# EAGLE library part SIM5350 (library my_ic)
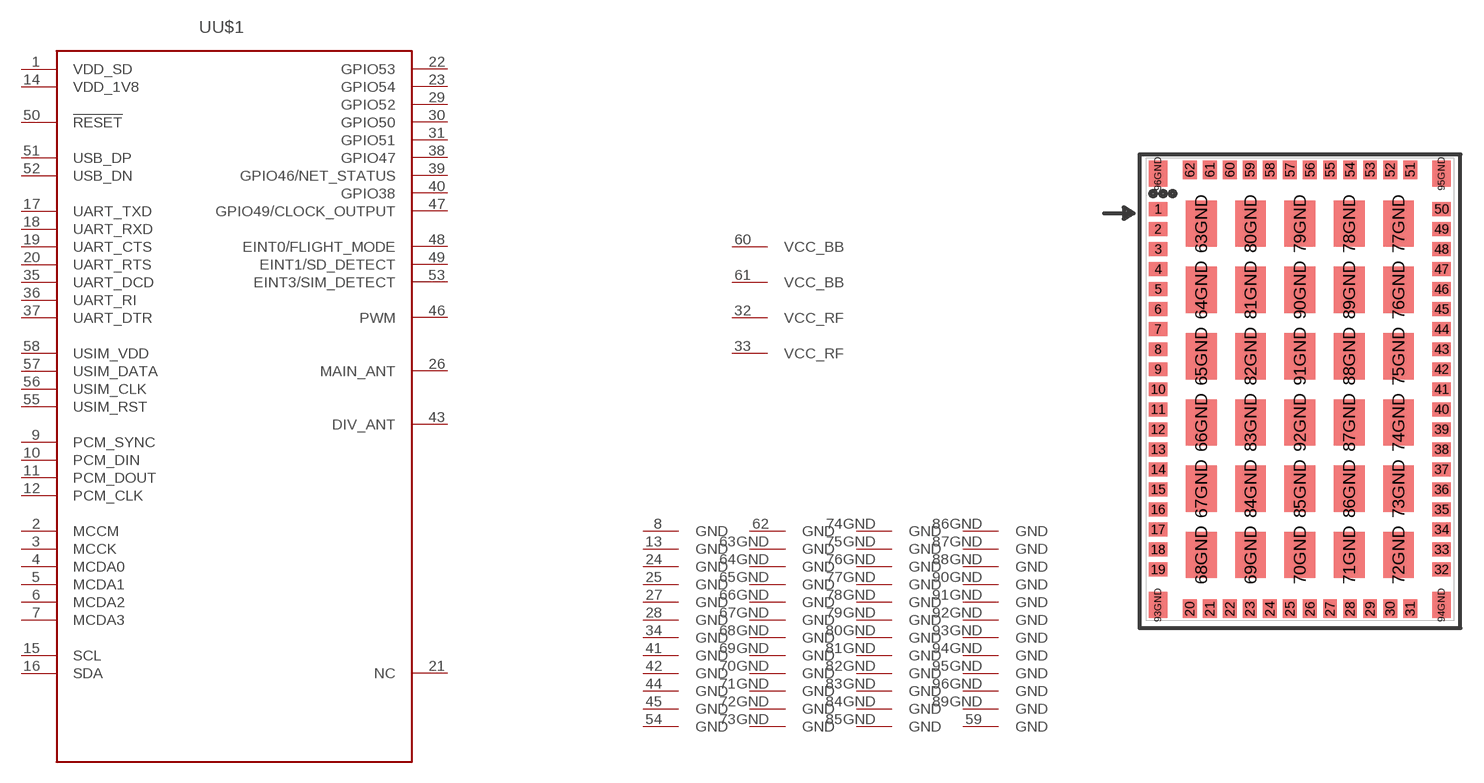
[diagram p16: symbol with the pads of SIM5350; footprint SIM5350]

Designator prefix -; gates VCC_BB@1=SIM5350_VCC_BB VCC_BB@2=SIM5350_VCC_BB VCC_RF@1=SIM5350_VCC_RF VCC_RF@2=SIM5350_VCC_RF U$1=SIM5350 GND@1=SIM5350_GND GND@2=SIM5350_GND GND@3=SIM5350_GND GND@4=SIM5350_GND GND@5=SIM5350_GND GND@6=SIM5350_GND GND@7=SIM5350_GND GND@8=SIM5350_GND GND@9=SIM5350_GND GND@10=SIM5350_GND GND@11=SIM5350_GND GND@12=SIM5350_GND GND@13=SIM5350_GND GND@14=SIM5350_GND GND@15=SIM5350_GND GND@16=SIM5350_GND GND@17=SIM5350_GND GND@18=SIM5350_GND GND@19=SIM5350_GND GND@20=SIM5350_GND GND@21=SIM5350_GND GND@22=SIM5350_GND GND@23=SIM5350_GND GND@24=SIM5350_GND GND@25=SIM5350_GND GND@26=SIM5350_GND GND@27=SIM5350_GND GND@28=SIM5350_GND GND@29=SIM5350_GND GND@30=SIM5350_GND GND@31=SIM5350_GND GND@32=SIM5350_GND GND@33=SIM5350_GND GND@34=SIM5350_GND GND@35=SIM5350_GND GND@36=SIM5350_GND GND@37=SIM5350_GND GND@38=SIM5350_GND GND@39=SIM5350_GND GND@40=SIM5350_GND GND@41=SIM5350_GND GND@42=SIM5350_GND GND@43=SIM5350_GND GND@44=SIM5350_GND GND@45=SIM5350_GND GND@46=SIM5350_GND GND@47=SIM5350_GND GND@48=SIM5350_GND

## SIM5350  [SIM5350]
1  U$1:VDD_SD  pwr
2  U$1:MCCM
3  U$1:MCCK
4  U$1:MCDA0
5  U$1:MCDA1
6  U$1:MCDA2
7  U$1:MCDA3
8  GND@1:GND  pwr
9  U$1:PCM_SYNC
10  U$1:PCM_DIN
11  U$1:PCM_DOUT
12  U$1:PCM_CLK
13  GND@2:GND  pwr
14  U$1:VDD_1V8  pwr
15  U$1:SCL
16  U$1:SDA
17  U$1:UART_TXD
18  U$1:UART_RXD
19  U$1:UART_CTS
20  U$1:UART_RTS
21  U$1:NC
22  U$1:GPIO53
23  U$1:GPIO54
24  GND@3:GND  pwr
25  GND@4:GND  pwr
26  U$1:MAIN_ANT
27  GND@5:GND  pwr
28  GND@6:GND  pwr
29  U$1:GPIO52
30  U$1:GPIO50
31  U$1:GPIO51
32  VCC_RF@1:VCC_RF  pwr
33  VCC_RF@2:VCC_RF  pwr
34  GND@7:GND  pwr
35  U$1:UART_DCD
36  U$1:UART_RI
37  U$1:UART_DTR
38  U$1:GPIO47
39  U$1:GPIO46/NET_STATUS
40  U$1:GPIO38
41  GND@8:GND  pwr
42  GND@9:GND  pwr
43  U$1:DIV_ANT
44  GND@10:GND  pwr
45  GND@11:GND  pwr
46  U$1:PWM
47  U$1:GPIO49/CLOCK_OUTPUT
48  U$1:EINT0/FLIGHT_MODE
49  U$1:EINT1/SD_DETECT
50  U$1:!RESET  in
51  U$1:USB_DP
52  U$1:USB_DN
53  U$1:EINT3/SIM_DETECT
54  GND@12:GND  pwr
55  U$1:USIM_RST
56  U$1:USIM_CLK
57  U$1:USIM_DATA
58  U$1:USIM_VDD  pwr
59  GND@48:GND  pwr
60  VCC_BB@1:VCC_BB  pwr
61  VCC_BB@2:VCC_BB  pwr
62  GND@13:GND  pwr
63GND  GND@14:GND  pwr
64GND  GND@15:GND  pwr
65GND  GND@16:GND  pwr
66GND  GND@17:GND  pwr
67GND  GND@18:GND  pwr
68GND  GND@19:GND  pwr
69GND  GND@20:GND  pwr
70GND  GND@21:GND  pwr
71GND  GND@22:GND  pwr
72GND  GND@23:GND  pwr
73GND  GND@24:GND  pwr
74GND  GND@25:GND  pwr
75GND  GND@26:GND  pwr
76GND  GND@27:GND  pwr
77GND  GND@28:GND  pwr
78GND  GND@29:GND  pwr
79GND  GND@30:GND  pwr
80GND  GND@31:GND  pwr
81GND  GND@32:GND  pwr
82GND  GND@33:GND  pwr
83GND  GND@34:GND  pwr
84GND  GND@35:GND  pwr
85GND  GND@36:GND  pwr
86GND  GND@37:GND  pwr
87GND  GND@38:GND  pwr
88GND  GND@39:GND  pwr
89GND  GND@47:GND  pwr
90GND  GND@40:GND  pwr
91GND  GND@41:GND  pwr
92GND  GND@42:GND  pwr
93GND  GND@43:GND  pwr
94GND  GND@44:GND  pwr
95GND  GND@45:GND  pwr
96GND  GND@46:GND  pwr

## Footprint SIM5350 (pad centres in mm)
smd 1.2 x 0.9: 1 -9.2,11.7; 2 -9.2,10.4; 3 -9.2,9.1; 4 -9.2,7.8; 5 -9.2,6.5; 6 -9.2,5.2; 7 -9.2,3.9; 8 -9.2,2.6; 9 -9.2,1.3; 10 -9.2,0; 11 -9.2,-1.3; 12 -9.2,-2.6; 13 -9.2,-3.9; 14 -9.2,-5.2; 15 -9.2,-6.5; 16 -9.2,-7.8; 17 -9.2,-9.1; 18 -9.2,-10.4; 19 -9.2,-11.7; 32 9.2,-11.7; 33 9.2,-10.4; 34 9.2,-9.1; 35 9.2,-7.8; 36 9.2,-6.5; 37 9.2,-5.2; 38 9.2,-3.9; 39 9.2,-2.6; 40 9.2,-1.3; 41 9.2,0; 42 9.2,1.3; 43 9.2,2.6; 44 9.2,3.9; 45 9.2,5.2; 46 9.2,6.5; 47 9.2,7.8; 48 9.2,9.1; 49 9.2,10.4; 50 9.2,11.7
smd 0.9 x 1.2: 20 -7.15,-14.25; 21 -5.85,-14.25; 22 -4.55,-14.25; 23 -3.25,-14.25; 24 -1.95,-14.25; 25 -0.65,-14.25; 26 0.65,-14.25; 27 1.95,-14.25; 28 3.25,-14.25; 29 4.55,-14.25; 30 5.85,-14.25; 31 7.15,-14.25; 51 7.15,14.25; 52 5.85,14.25; 53 4.55,14.25; 54 3.25,14.25; 55 1.95,14.25; 56 0.65,14.25; 57 -0.65,14.25; 58 -1.95,14.25; 59 -3.25,14.25; 60 -4.55,14.25; 61 -5.85,14.25; 62 -7.15,14.25
smd 2 x 3: 63GND -6.4,10.75; 64GND -6.4,6.45; 65GND -6.4,2.15; 66GND -6.4,-2.15; 67GND -6.4,-6.45; 68GND -6.4,-10.75; 69GND -3.2,-10.75; 70GND 0,-10.75; 71GND 3.2,-10.75; 72GND 6.4,-10.75; 73GND 6.4,-6.45; 74GND 6.4,-2.15; 75GND 6.4,2.15; 76GND 6.4,6.45; 77GND 6.4,10.75; 78GND 3.2,10.75; 79GND 0,10.75; 80GND -3.2,10.75; 81GND -3.2,6.45; 82GND -3.2,2.15; 83GND -3.2,-2.15; 84GND -3.2,-6.45; 85GND 0,-6.45; 86GND 3.2,-6.45; 87GND 3.2,-2.15; 88GND 3.2,2.15; 89GND 3.2,6.45; 90GND 0,6.45; 91GND 0,2.15; 92GND 0,-2.15
smd 1.2 x 1.7: 93GND -9.2,-14; 94GND 9.2,-14; 95GND 9.2,14; 96GND -9.2,14